# Altium schematic symbol library RF_Amplifier.SchLib: 76 symbols
Pins are listed as number, name and electrical type; pins without a type are passive.

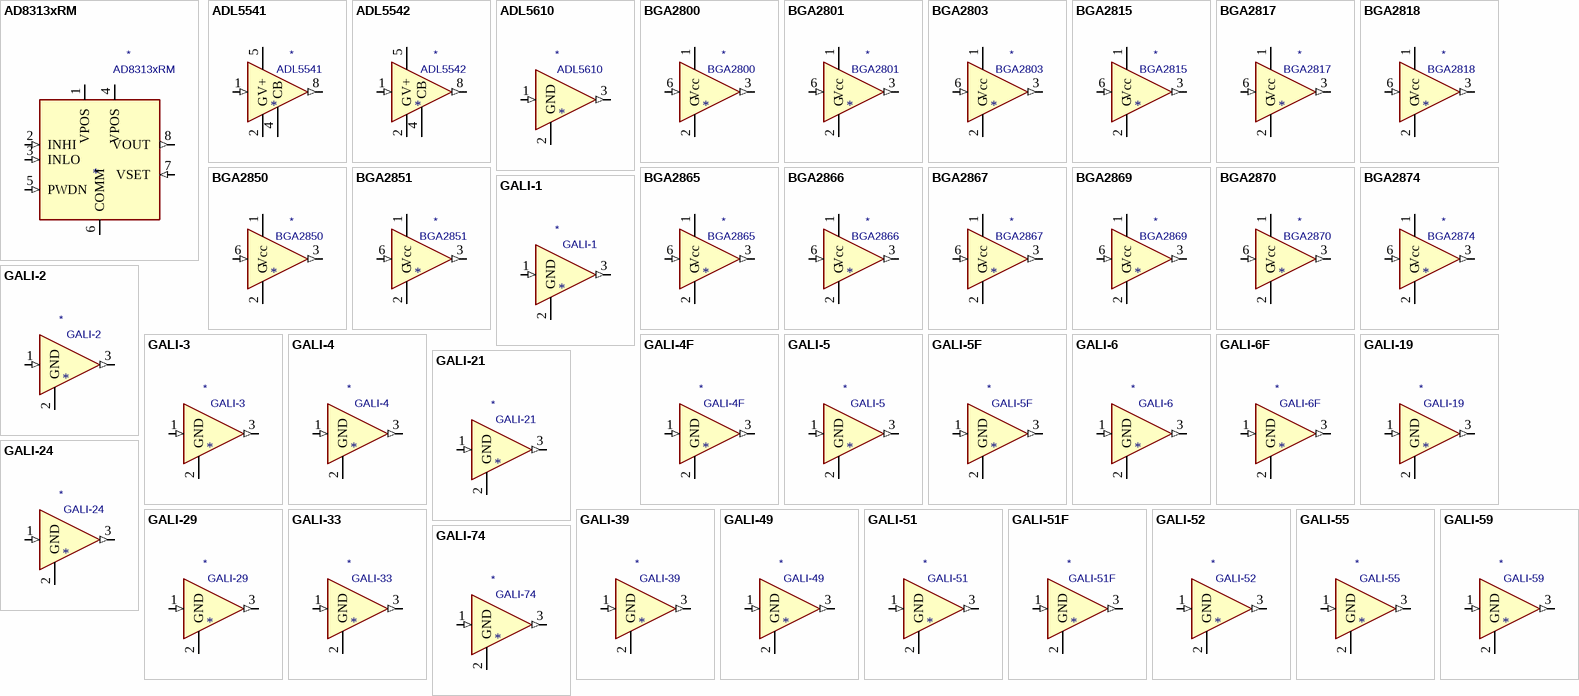
[diagram p0: symbols AD8313xRM to GALI-74]

## AD8313xRM
designator *  value AD8313xRM
ki_keywords: RF LOG POWER DETECTOR; ki_description: 100 MHz to 2.5 GHz, 80 dB Logarithmic Detector / Controller, MSOP-8; ki_fp_filters: MSOP*3x3mm*P0.65mm*; Footprint: Package_SO:MSOP-8_3x3mm_P0.65mm; Supplier: https://www.analog.com/media/en/technical-documentation/data-sheets/AD8313.pdf
footprint MSOP-8_3x3mm_P0.65mm
pins: 1 VPOS (power), 2 INHI (in), 3 INLO (in), 4 VPOS (power), 5 PWDN (in), 6 COMM (power), 7 VSET (in), 8 VOUT (out)

## ADL5541
designator *  value ADL5541
ki_keywords: RF GAIN BLOCK; ki_description: 20-6000MHz RF/IF +15dB gain block, LFCSP-8; ki_fp_filters: Analog*LFCSP*1EP*3x3mm*P0.5mm*EP1.53x1.85mm*; Footprint: Package_CSP:Analog_LFCSP-8-1EP_3x3mm_P0.5mm_EP1.53x1.85mm; Supplier: https://www.analog.com/media/en/technical-documentation/data-sheets/ADL5541.pdf
footprint Analog_LFCSP-8-1EP_3x3mm_P0.5mm_EP1.53x1.85mm
pins: 1 (in), 2 G (power), 4 CB, 5 V+ (power), 8 (out)

## ADL5542
designator *  value ADL5542
ki_keywords: RF GAIN BLOCK; ki_description: 20-6000MHz RF/IF +20dB gain block, LFCSP-8; ki_fp_filters: Analog*LFCSP*1EP*3x3mm*P0.5mm*EP1.53x1.85mm*; Footprint: Package_CSP:Analog_LFCSP-8-1EP_3x3mm_P0.5mm_EP1.53x1.85mm; Supplier: https://www.analog.com/media/en/technical-documentation/data-sheets/ADL5542.pdf
footprint Analog_LFCSP-8-1EP_3x3mm_P0.5mm_EP1.53x1.85mm
pins: 1 (in), 2 G (power), 4 CB, 5 V+ (power), 8 (out)

## ADL5610
designator *  value ADL5610
ki_keywords: RF GAIN BLOCK; ki_description: 30-6000MHz RF/IF +18.4dB gain block, SOT-89; ki_fp_filters: SOT?89*; Footprint: Package_TO_SOT_SMD:SOT-89-3; Supplier: https://www.analog.com/media/en/technical-documentation/data-sheets/ADL5610.pdf
footprint SOT-89-3
pins: 1 (in), 2 GND (power), 3 (out)

## BGA2800
designator *  value BGA2800
ki_keywords: RF GAIN BLOCK; ki_description: MMIC wideband amplifier, DC-2.2GHz, +20.2dB @ 2150MHz, 3.3V, SOT-363; ki_fp_filters: SOT*363*; Footprint: Package_TO_SOT_SMD:SOT-363_SC-70-6; Supplier: https://www.nxp.com/docs/en/data-sheet/BGA2800.pdf
footprint SOT-363_SC-70-6
pins: 1 Vcc (power), 2 G (power), 3 (out), 4 G hidden, 5 G hidden, 6 (in)

## BGA2801
designator *  value BGA2801
ki_keywords: RF GAIN BLOCK; ki_description: MMIC wideband amplifier, DC-2.2GHz, +23dB @ 2120MHz, 3.3V, SOT-363; ki_fp_filters: SOT*363*; Footprint: Package_TO_SOT_SMD:SOT-363_SC-70-6; Supplier: https://www.nxp.com/docs/en/data-sheet/BGA2801.pdf
footprint SOT-363_SC-70-6
pins: 1 Vcc (power), 2 G (power), 3 (out), 4 G hidden, 5 G hidden, 6 (in)

## BGA2803
designator *  value BGA2803
ki_keywords: RF GAIN BLOCK; ki_description: MMIC wideband amplifier, DC-2.2GHz, +23.6dB @ 950MHz, 3V, SOT-363; ki_fp_filters: SOT*363*; Footprint: Package_TO_SOT_SMD:SOT-363_SC-70-6; Supplier: https://www.nxp.com/docs/en/data-sheet/BGA2803.pdf
footprint SOT-363_SC-70-6
pins: 1 Vcc (power), 2 G (power), 3 (out), 4 G hidden, 5 G hidden, 6 (in)

## BGA2815
designator *  value BGA2815
ki_keywords: RF GAIN BLOCK; ki_description: MMIC wideband amplifier, DC-2.2GHz, +24.7dB @ 2150MHz, 3.3V, SOT-363; ki_fp_filters: SOT*363*; Footprint: Package_TO_SOT_SMD:SOT-363_SC-70-6; Supplier: https://www.nxp.com/docs/en/data-sheet/BGA2815.pdf
footprint SOT-363_SC-70-6
pins: 1 Vcc (power), 2 G (power), 3 (out), 4 G hidden, 5 G hidden, 6 (in)

## BGA2817
designator *  value BGA2817
ki_keywords: RF GAIN BLOCK; ki_description: MMIC wideband amplifier, DC-2.2GHz, +24.4dB @ 2150MHz, 3.3V, SOT-363; ki_fp_filters: SOT*363*; Footprint: Package_TO_SOT_SMD:SOT-363_SC-70-6; Supplier: https://www.nxp.com/docs/en/data-sheet/BGA2817.pdf
footprint SOT-363_SC-70-6
pins: 1 Vcc (power), 2 G (power), 3 (out), 4 G hidden, 5 G hidden, 6 (in)

## BGA2818
designator *  value BGA2818
ki_keywords: RF GAIN BLOCK; ki_description: MMIC wideband amplifier, DC-2.2GHz, +30dB @ 2150MHz, 3.3V, SOT-363; ki_fp_filters: SOT*363*; Footprint: Package_TO_SOT_SMD:SOT-363_SC-70-6; Supplier: https://www.nxp.com/docs/en/data-sheet/BGA2818.pdf
footprint SOT-363_SC-70-6
pins: 1 Vcc (power), 2 G (power), 3 (out), 4 G hidden, 5 G hidden, 6 (in)

## BGA2850
designator *  value BGA2850
ki_keywords: RF GAIN BLOCK; ki_description: MIC wideband amplifier, DC-2.2GHz, +24dB @ 950MHz, 5V, SOT-363-6; ki_fp_filters: SOT*363*; Footprint: Package_TO_SOT_SMD:SOT-363_SC-70-6; Supplier: https://www.nxp.com/docs/en/data-sheet/BGA2850.pdf
footprint SOT-363_SC-70-6
pins: 1 Vcc (power), 2 G (power), 3 (out), 4 G hidden, 5 G hidden, 6 (in)

## BGA2851
designator *  value BGA2851
ki_keywords: RF GAIN BLOCK; ki_description: MMIC wideband amplifier, DC-2.2GHz, +24.8dB @ 950MHz, 5V, SOT-363-6; ki_fp_filters: SOT*363*; Footprint: Package_TO_SOT_SMD:SOT-363_SC-70-6; Supplier: https://www.nxp.com/docs/en/data-sheet/BGA2851.pdf
footprint SOT-363_SC-70-6
pins: 1 Vcc (power), 2 G (power), 3 (out), 4 G hidden, 5 G hidden, 6 (in)

## BGA2865
designator *  value BGA2865
ki_keywords: RF GAIN BLOCK; ki_description: MMIC wideband amplifier, DC-2.2GHz, +32.2dB @ 950MHz, 5V, SOT-363; ki_fp_filters: SOT*363*; Footprint: Package_TO_SOT_SMD:SOT-363_SC-70-6; Supplier: https://www.nxp.com/docs/en/data-sheet/BGA2865.pdf
footprint SOT-363_SC-70-6
pins: 1 Vcc (power), 2 G (power), 3 (out), 4 G hidden, 5 G hidden, 6 (in)

## BGA2866
designator *  value BGA2866
ki_keywords: RF GAIN BLOCK; ki_description: MMIC wideband amplifier, DC-2.2GHz, +24.3dB @ 2150MHz, 5V, SOT-363; ki_fp_filters: SOT*363*; Footprint: Package_TO_SOT_SMD:SOT-363_SC-70-6; Supplier: https://www.nxp.com/docs/en/data-sheet/BGA2866.pdf
footprint SOT-363_SC-70-6
pins: 1 Vcc (power), 2 G (power), 3 (out), 4 G hidden, 5 G hidden, 6 (in)

## BGA2867
designator *  value BGA2867
ki_keywords: RF GAIN BLOCK; ki_description: MMIC wideband amplifier, DC-2.2GHz, +26.4dB @ 2150MHz, 5V, SOT-363; ki_fp_filters: SOT*363*; Footprint: Package_TO_SOT_SMD:SOT-363_SC-70-6; Supplier: https://www.nxp.com/docs/en/data-sheet/BGA2867.pdf
footprint SOT-363_SC-70-6
pins: 1 Vcc (power), 2 G (power), 3 (out), 4 G hidden, 5 G hidden, 6 (in)

## BGA2869
designator *  value BGA2869
ki_keywords: RF GAIN BLOCK; ki_description: MMIC wideband amplifier, DC-2.2GHz, +31.7dB @ 950MHz, 5V, SOT-363; ki_fp_filters: SOT*363*; Footprint: Package_TO_SOT_SMD:SOT-363_SC-70-6; Supplier: https://www.nxp.com/docs/en/data-sheet/BGA2869.pdf
footprint SOT-363_SC-70-6
pins: 1 Vcc (power), 2 G (power), 3 (out), 4 G hidden, 5 G hidden, 6 (in)

## BGA2870
designator *  value BGA2870
ki_keywords: RF GAIN BLOCK; ki_description: MMIC wideband amplifier, DC-2.2GHz, +31.1dB @ 500MHz, 2.5V, SOT-363; ki_fp_filters: SOT*363*; Footprint: Package_TO_SOT_SMD:SOT-363_SC-70-6; Supplier: https://www.nxp.com/docs/en/data-sheet/BGA2870.pdf
footprint SOT-363_SC-70-6
pins: 1 Vcc (power), 2 G (power), 3 (out), 4 G hidden, 5 G hidden, 6 (in)

## BGA2874
designator *  value BGA2874
ki_keywords: RF GAIN BLOCK; ki_description: MMIC wideband amplifier, DC-2.2GHz, +31dB @ 750MHz, 2.5V, SOT-363; ki_fp_filters: SOT*363*; Footprint: Package_TO_SOT_SMD:SOT-363_SC-70-6; Supplier: https://www.nxp.com/docs/en/data-sheet/BGA2874.pdf
footprint SOT-363_SC-70-6
pins: 1 Vcc (power), 2 G (power), 3 (out), 4 G hidden, 5 G hidden, 6 (in)

## GALI-1
designator *  value GALI-1
ki_keywords: RF amplifier; ki_description: DC-8000MHz +11.8dB Gain Block, SOT-89; ki_fp_filters: SOT?89*; Footprint: Package_TO_SOT_SMD:SOT-89-3; Supplier: https://www.minicircuits.com/pdfs/GALI-1+.pdf
footprint SOT-89-3
pins: 1 (in), 2 GND (power), 3 (out)

## GALI-2
designator *  value GALI-2
ki_keywords: RF amplifier; ki_description: DC-8000MHz +14.8dB Gain Block, SOT-89; ki_fp_filters: SOT?89*; Footprint: Package_TO_SOT_SMD:SOT-89-3; Supplier: https://www.minicircuits.com/pdfs/GALI-2+.pdf
footprint SOT-89-3
pins: 1 (in), 2 GND (power), 3 (out)

## GALI-3
designator *  value GALI-3
ki_keywords: RF amplifier; ki_description: DC-3000MHz +19.1dB Gain Block, SOT-89; ki_fp_filters: SOT?89*; Footprint: Package_TO_SOT_SMD:SOT-89-3; Supplier: https://www.minicircuits.com/pdfs/GALI-3+.pdf
footprint SOT-89-3
pins: 1 (in), 2 GND (power), 3 (out)

## GALI-4
designator *  value GALI-4
ki_keywords: RF amplifier; ki_description: DC-4000MHz +13.5dB Gain Block, SOT-89; ki_fp_filters: SOT?89*; Footprint: Package_TO_SOT_SMD:SOT-89-3; Supplier: https://www.minicircuits.com/pdfs/GALI-4+.pdf
footprint SOT-89-3
pins: 1 (in), 2 GND (power), 3 (out)

## GALI-4F
designator *  value GALI-4F
ki_keywords: RF amplifier; ki_description: DC-4000MHz +13.4dB Gain Block, SOT-89; ki_fp_filters: SOT?89*; Footprint: Package_TO_SOT_SMD:SOT-89-3; Supplier: https://www.minicircuits.com/pdfs/GALI-4F+.pdf
footprint SOT-89-3
pins: 1 (in), 2 GND (power), 3 (out)

## GALI-5
designator *  value GALI-5
ki_keywords: RF amplifier; ki_description: DC-4000MHz +17.5dB Gain Block, SOT-89; ki_fp_filters: SOT?89*; Footprint: Package_TO_SOT_SMD:SOT-89-3; Supplier: https://www.minicircuits.com/pdfs/GALI-5+.pdf
footprint SOT-89-3
pins: 1 (in), 2 GND (power), 3 (out)

## GALI-5F
designator *  value GALI-5F
ki_keywords: RF amplifier; ki_description: DC-4000MHz +17.4dB Gain Block, SOT-89; ki_fp_filters: SOT?89*; Footprint: Package_TO_SOT_SMD:SOT-89-3; Supplier: https://www.minicircuits.com/pdfs/GALI-5F+.pdf
footprint SOT-89-3
pins: 1 (in), 2 GND (power), 3 (out)

## GALI-6
designator *  value GALI-6
ki_keywords: RF amplifier; ki_description: DC-4000MHz +11.3dB Gain Block, SOT-89; ki_fp_filters: SOT?89*; Footprint: Package_TO_SOT_SMD:SOT-89-3; Supplier: https://www.minicircuits.com/pdfs/GALI-6+.pdf
footprint SOT-89-3
pins: 1 (in), 2 GND (power), 3 (out)

## GALI-6F
designator *  value GALI-6F
ki_keywords: RF amplifier; ki_description: DC-4000MHz +11.6dB Gain Block, SOT-89; ki_fp_filters: SOT?89*; Footprint: Package_TO_SOT_SMD:SOT-89-3; Supplier: https://www.minicircuits.com/pdfs/GALI-6F+.pdf
footprint SOT-89-3
pins: 1 (in), 2 GND (power), 3 (out)

## GALI-19
designator *  value GALI-19
ki_keywords: RF amplifier; ki_description: DC-7000MHz +11.6dB Gain Block, SOT-89; ki_fp_filters: SOT?89*; Footprint: Package_TO_SOT_SMD:SOT-89-3; Supplier: https://www.minicircuits.com/pdfs/GALI-19+.pdf
footprint SOT-89-3
pins: 1 (in), 2 GND (power), 3 (out)

## GALI-21
designator *  value GALI-21
ki_keywords: RF amplifier; ki_description: DC-8000MHz +13.1dB Gain Block, SOT-89; ki_fp_filters: SOT?89*; Footprint: Package_TO_SOT_SMD:SOT-89-3; Supplier: https://www.minicircuits.com/pdfs/GALI-21+.pdf
footprint SOT-89-3
pins: 1 (in), 2 GND (power), 3 (out)

## GALI-24
designator *  value GALI-24
ki_keywords: RF amplifier; ki_description: DC-6000MHz +16.6dB Gain Block, SOT-89; ki_fp_filters: SOT?89*; Footprint: Package_TO_SOT_SMD:SOT-89-3; Supplier: https://www.minicircuits.com/pdfs/GALI-24+.pdf
footprint SOT-89-3
pins: 1 (in), 2 GND (power), 3 (out)

## GALI-29
designator *  value GALI-29
ki_keywords: RF amplifier; ki_description: DC-7000MHz +19.7dB Gain Block, SOT-89; ki_fp_filters: SOT?89*; Footprint: Package_TO_SOT_SMD:SOT-89-3; Supplier: https://www.minicircuits.com/pdfs/GALI-29+.pdf
footprint SOT-89-3
pins: 1 (in), 2 GND (power), 3 (out)

## GALI-33
designator *  value GALI-33
ki_keywords: RF amplifier; ki_description: DC-4000MHz +17.5dB Gain Block, SOT-89; ki_fp_filters: SOT?89*; Footprint: Package_TO_SOT_SMD:SOT-89-3; Supplier: https://www.minicircuits.com/pdfs/GALI-33+.pdf
footprint SOT-89-3
pins: 1 (in), 2 GND (power), 3 (out)

## GALI-39
designator *  value GALI-39
ki_keywords: RF amplifier; ki_description: DC-7000MHz +19.7dB Low Noise Amplifier, SOT-89; ki_fp_filters: SOT?89*; Footprint: Package_TO_SOT_SMD:SOT-89-3; Supplier: https://www.minicircuits.com/pdfs/GALI-39+.pdf
footprint SOT-89-3
pins: 1 (in), 2 GND (power), 3 (out)

## GALI-49
designator *  value GALI-49
ki_keywords: RF amplifier; ki_description: DC-5000MHz +13.6dB Gain Block, SOT-89; ki_fp_filters: SOT?89*; Footprint: Package_TO_SOT_SMD:SOT-89-3; Supplier: https://www.minicircuits.com/pdfs/GALI-49+.pdf
footprint SOT-89-3
pins: 1 (in), 2 GND (power), 3 (out)

## GALI-51
designator *  value GALI-51
ki_keywords: RF amplifier; ki_description: DC-4000MHz +16.1dB Gain Block, SOT-89; ki_fp_filters: SOT?89*; Footprint: Package_TO_SOT_SMD:SOT-89-3; Supplier: https://www.minicircuits.com/pdfs/GALI-51+.pdf
footprint SOT-89-3
pins: 1 (in), 2 GND (power), 3 (out)

## GALI-51F
designator *  value GALI-51F
ki_keywords: RF amplifier; ki_description: DC-4000MHz +15.9dB Gain Block, SOT-89; ki_fp_filters: SOT?89*; Footprint: Package_TO_SOT_SMD:SOT-89-3; Supplier: https://www.minicircuits.com/pdfs/GALI-51F+.pdf
footprint SOT-89-3
pins: 1 (in), 2 GND (power), 3 (out)

## GALI-52
designator *  value GALI-52
ki_keywords: RF amplifier; ki_description: DC-2000MHz +17.8dB Low Noise Amplifier, SOT-89; ki_fp_filters: SOT?89*; Footprint: Package_TO_SOT_SMD:SOT-89-3; Supplier: https://www.minicircuits.com/pdfs/GALI-52+.pdf
footprint SOT-89-3
pins: 1 (in), 2 GND (power), 3 (out)

## GALI-55
designator *  value GALI-55
ki_keywords: RF amplifier; ki_description: DC-4000MHz +18.5dB Gain Block, SOT-89; ki_fp_filters: SOT?89*; Footprint: Package_TO_SOT_SMD:SOT-89-3; Supplier: https://www.minicircuits.com/pdfs/GALI-55+.pdf
footprint SOT-89-3
pins: 1 (in), 2 GND (power), 3 (out)

## GALI-59
designator *  value GALI-59
ki_keywords: RF amplifier; ki_description: DC-5000MHz +18.3dB Gain Block, SOT-89; ki_fp_filters: SOT?89*; Footprint: Package_TO_SOT_SMD:SOT-89-3; Supplier: https://www.minicircuits.com/pdfs/GALI-59+.pdf
footprint SOT-89-3
pins: 1 (in), 2 GND (power), 3 (out)

## GALI-74
designator *  value GALI-74
ki_keywords: RF amplifier; ki_description: DC-1000MHz +21.8dB Low Noise Amplifier, SOT-89; ki_fp_filters: SOT?89*; Footprint: Package_TO_SOT_SMD:SOT-89-3; Supplier: https://www.minicircuits.com/pdfs/GALI-74+.pdf
footprint SOT-89-3
pins: 1 (in), 2 GND (power), 3 (out)

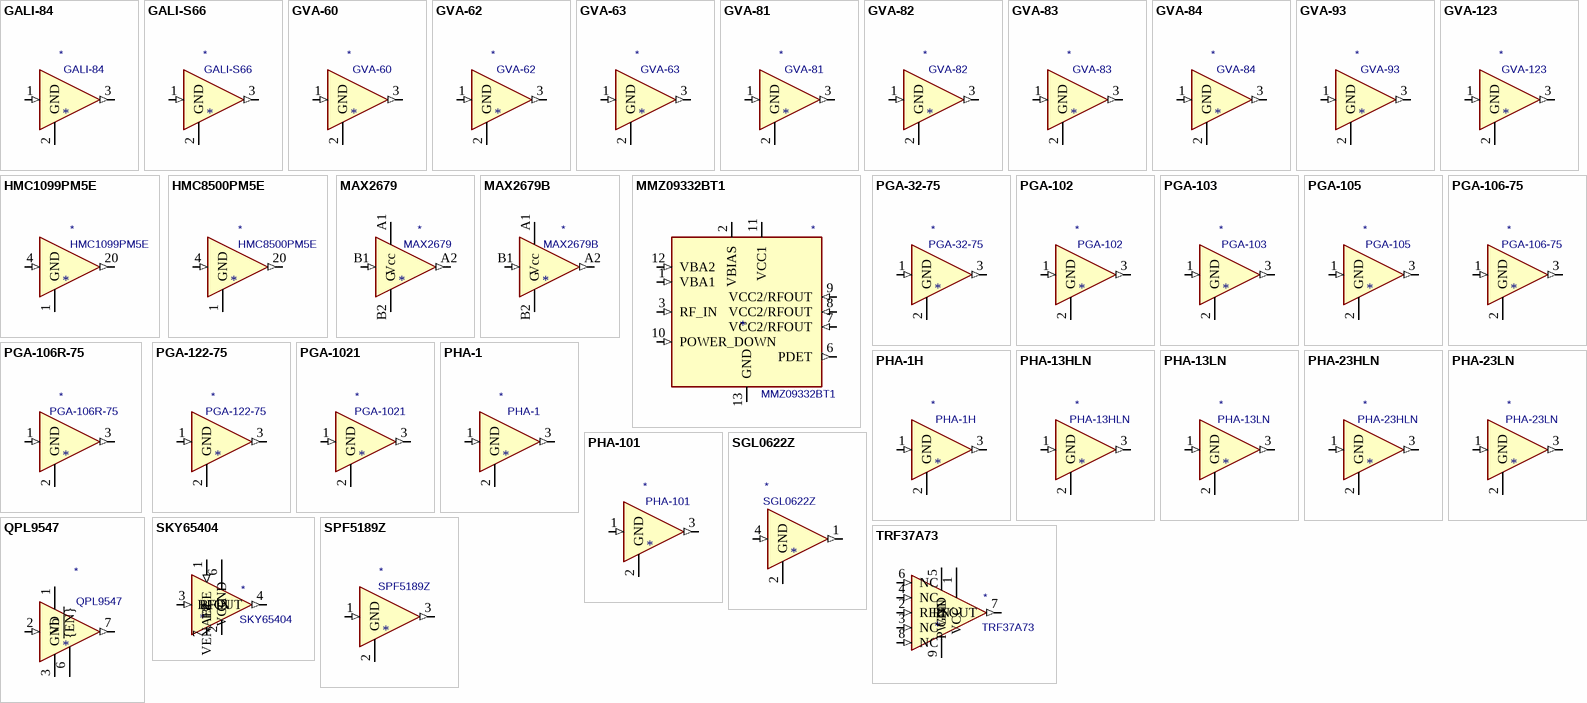
[diagram p1: symbols GALI-84 to TRF37A73]

## GALI-84
designator *  value GALI-84
ki_keywords: RF amplifier; ki_description: DC-6000MHz +16.7dB Gain Block, SOT-89; ki_fp_filters: SOT?89*; Footprint: Package_TO_SOT_SMD:SOT-89-3; Supplier: https://www.minicircuits.com/pdfs/GALI-84+.pdf
footprint SOT-89-3
pins: 1 (in), 2 GND (power), 3 (out)

## GALI-S66
designator *  value GALI-S66
ki_keywords: RF amplifier; ki_description: DC-3000MHz +18.2dB Low Noise Amplifier, SOT-89; ki_fp_filters: SOT?89*; Footprint: Package_TO_SOT_SMD:SOT-89-3; Supplier: https://www.minicircuits.com/pdfs/GALI-S66+.pdf
footprint SOT-89-3
pins: 1 (in), 2 GND (power), 3 (out)

## GVA-60
designator *  value GVA-60
ki_keywords: RF amplifier; ki_description: 10-5000MHz +19.8dB Gain Block, SOT-89; ki_fp_filters: SOT?89*; Footprint: Package_TO_SOT_SMD:SOT-89-3; Supplier: https://www.minicircuits.com/pdfs/GVA-60+.pdf
footprint SOT-89-3
pins: 1 (in), 2 GND (power), 3 (out)

## GVA-62
designator *  value GVA-62
ki_keywords: RF amplifier; ki_description: 10-6000MHz +15.4dB Gain Block, SOT-89; ki_fp_filters: SOT?89*; Footprint: Package_TO_SOT_SMD:SOT-89-3; Supplier: https://www.minicircuits.com/pdfs/GVA-62+.pdf
footprint SOT-89-3
pins: 1 (in), 2 GND (power), 3 (out)

## GVA-63
designator *  value GVA-63
ki_keywords: RF amplifier; ki_description: 10-6000MHz +20dB Gain Block, SOT-89; ki_fp_filters: SOT?89*; Footprint: Package_TO_SOT_SMD:SOT-89-3; Supplier: https://www.minicircuits.com/pdfs/GVA-63+.pdf
footprint SOT-89-3
pins: 1 (in), 2 GND (power), 3 (out)

## GVA-81
designator *  value GVA-81
ki_keywords: RF amplifier; ki_description: DC-6000MHz +10dB Gain Block, SOT-89; ki_fp_filters: SOT?89*; Footprint: Package_TO_SOT_SMD:SOT-89-3; Supplier: https://www.minicircuits.com/pdfs/GVA-81+.pdf
footprint SOT-89-3
pins: 1 (in), 2 GND (power), 3 (out)

## GVA-82
designator *  value GVA-82
ki_keywords: RF amplifier; ki_description: DC-7000MHz +13.8dB Gain Block, SOT-89; ki_fp_filters: SOT?89*; Footprint: Package_TO_SOT_SMD:SOT-89-3; Supplier: https://www.minicircuits.com/pdfs/GVA-82+.pdf
footprint SOT-89-3
pins: 1 (in), 2 GND (power), 3 (out)

## GVA-83
designator *  value GVA-83
ki_keywords: RF amplifier; ki_description: DC-7000MHz +17.1dB Gain Block, SOT-89; ki_fp_filters: SOT?89*; Footprint: Package_TO_SOT_SMD:SOT-89-3; Supplier: https://www.minicircuits.com/pdfs/GVA-83+.pdf
footprint SOT-89-3
pins: 1 (in), 2 GND (power), 3 (out)

## GVA-84
designator *  value GVA-84
ki_keywords: RF amplifier; ki_description: DC-7000MHz +16dB Gain Block, SOT-89; ki_fp_filters: SOT?89*; Footprint: Package_TO_SOT_SMD:SOT-89-3; Supplier: https://www.minicircuits.com/pdfs/GVA-84+.pdf
footprint SOT-89-3
pins: 1 (in), 2 GND (power), 3 (out)

## GVA-93
designator *  value GVA-93
ki_keywords: RF amplifier; ki_description: 10-9000MHz +16.9dB Gain Block, SOT-89; ki_fp_filters: SOT?89*; Footprint: Package_TO_SOT_SMD:SOT-89-3; Supplier: https://www.minicircuits.com/pdfs/GVA-93+.pdf
footprint SOT-89-3
pins: 1 (in), 2 GND (power), 3 (out)

## GVA-123
designator *  value GVA-123
ki_keywords: RF amplifier; ki_description: 10-12000MHz +16.9dB Gain Block, SOT-89; ki_fp_filters: SOT?89*; Footprint: Package_TO_SOT_SMD:SOT-89-3; Supplier: https://www.minicircuits.com/pdfs/GVA-123+.pdf
footprint SOT-89-3
pins: 1 (in), 2 GND (power), 3 (out)

## HMC1099PM5E
designator *  value HMC1099PM5E
ki_keywords: RF Amplifier; ki_description: 10 W (40 dBm), 0.01 GHz to 1.1 GHz, GaN Power Amplifier, LFCSP-32; ki_fp_filters: LFCSP*1EP*5x5mm*P0.5mm*; Footprint: Package_CSP:LFCSP-32-1EP_5x5mm_P0.5mm_EP3.1x3.1mm; Supplier: https://www.analog.com/media/en/technical-documentation/data-sheets/HMC1099PM5E.pdf
footprint LFCSP-32-1EP_5x5mm_P0.5mm_EP3.1x3.1mm
pins: 1 GND (power), 2 GND hidden, 3 GND hidden, 4 (in), 5 (in) hidden, 6 GND hidden, 7 GND hidden, 8 GND hidden, 9 GND hidden, 10 GND hidden, 11 GND hidden, 12 GND hidden, 13 GND hidden, 14 GND hidden, 15 GND hidden, 16 GND hidden, 17 GND hidden, 18 GND hidden, 19 GND hidden, 20 (out), 21 hidden, 22 GND hidden, 23 GND hidden, 24 GND hidden, 25 GND hidden, 26 GND hidden, 27 GND hidden, 28 GND hidden, 29 GND hidden, 30 GND hidden, 31 GND hidden, 32 GND hidden, 33 GND hidden

## HMC8500PM5E
designator *  value HMC8500PM5E
ki_keywords: RF Amplifier; ki_description: 10 W (40 dBm), 0.01 GHz to 2.8 GHz, GaN Power Amplifier, LFCSP-32; ki_fp_filters: LFCSP*1EP*5x5mm*P0.5mm*; Footprint: Package_CSP:LFCSP-32-1EP_5x5mm_P0.5mm_EP3.1x3.1mm; Supplier: https://www.analog.com/media/en/technical-documentation/data-sheets/HMC8500PM5E.pdf
footprint LFCSP-32-1EP_5x5mm_P0.5mm_EP3.1x3.1mm
pins: 1 GND (power), 2 GND hidden, 3 GND hidden, 4 (in), 5 (in) hidden, 6 GND hidden, 7 GND hidden, 8 GND hidden, 9 GND hidden, 10 GND hidden, 11 GND hidden, 12 GND hidden, 13 GND hidden, 14 GND hidden, 15 GND hidden, 16 GND hidden, 17 GND hidden, 18 GND hidden, 19 GND hidden, 20 (out), 21 hidden, 22 GND hidden, 23 GND hidden, 24 GND hidden, 25 GND hidden, 26 GND hidden, 27 GND hidden, 28 GND hidden, 29 GND hidden, 30 GND hidden, 31 GND hidden, 32 GND hidden, 33 GND hidden

## MAX2679
designator *  value MAX2679
ki_keywords: RF GAIN BLOCK; ki_description: GPS/GNSS Ultra-Low Current Low-Noise Amplifier, +19dB @ 1.57GHz, WLP-4; ki_fp_filters: WLP*0.83x0.83mm*P0.4mm*; Footprint: Package_BGA:WLP-4_0.83x0.83mm_P0.4mm; Supplier: https://datasheets.maximintegrated.com/en/ds/MAX2679-MAX2679B.pdf
footprint WLP-4_0.83x0.83mm_P0.4mm
pins: A1 Vcc (power), A2 (out), B1 (in), B2 G (power)

## MAX2679B
designator *  value MAX2679B
ki_keywords: RF GAIN BLOCK; ki_description: GPS/GNSS Ultra-Low Current Low-Noise Amplifier, +16.5dB @ 1.57GHz, WLP-4; ki_fp_filters: WLP*0.83x0.83mm*P0.4mm*; Footprint: Package_BGA:WLP-4_0.83x0.83mm_P0.4mm; Supplier: https://datasheets.maximintegrated.com/en/ds/MAX2679-MAX2679B.pdf
footprint WLP-4_0.83x0.83mm_P0.4mm
pins: A1 Vcc (power), A2 (out), B1 (in), B2 G (power)

## MMZ09332BT1
designator *  value MMZ09332BT1
ki_keywords: RF; ki_description: High Efficiency/Linearity Amplifier high linearity broadband amplifier, QFN-12; ki_fp_filters: QFN*3x3mm*P0.5mm*; Footprint: Package_DFN_QFN:QFN-12-1EP_3x3mm_P0.5mm_EP1.6x1.6mm_ThermalVias; Supplier: https://www.nxp.com/docs/en/data-sheet/MMZ09332B.pdf
footprint QFN-12-1EP_3x3mm_P0.5mm_EP1.6x1.6mm_ThermalVias
pins: 1 VBA1 (in), 2 VBIAS (power), 3 RF_IN (in), 4 NC (in) hidden, 5 NC (in) hidden, 6 PDET (out), 7 VCC2/RFOUT (in), 8 VCC2/RFOUT (in), 9 VCC2/RFOUT (in), 10 POWER_DOWN (in), 11 VCC1 (power), 12 VBA2 (in), 13 GND (power)

## PGA-32-75
designator *  value PGA-32-75
ki_keywords: RF amplifier; ki_description: 5-300MHz +15.6dB CATV Amplifier, SOT-89; ki_fp_filters: SOT?89*; Footprint: Package_TO_SOT_SMD:SOT-89-3; Supplier: https://www.minicircuits.com/pdfs/PGA-32-75+.pdf
footprint SOT-89-3
pins: 1 (in), 2 GND (power), 3 (out)

## PGA-102
designator *  value PGA-102
ki_keywords: RF amplifier; ki_description: 50-6000MHz +15.9dB Low Noise Amplifier, SOT-89; ki_fp_filters: SOT?89*; Footprint: Package_TO_SOT_SMD:SOT-89-3; Supplier: https://www.minicircuits.com/pdfs/PGA-102+.pdf
footprint SOT-89-3
pins: 1 (in), 2 GND (power), 3 (out)

## PGA-103
designator *  value PGA-103
ki_keywords: RF amplifier; ki_description: 50-4000MHz +11dB Low Noise Amplifier, SOT-89; ki_fp_filters: SOT?89*; Footprint: Package_TO_SOT_SMD:SOT-89-3; Supplier: https://www.minicircuits.com/pdfs/PGA-103+.pdf
footprint SOT-89-3
pins: 1 (in), 2 GND (power), 3 (out)

## PGA-105
designator *  value PGA-105
ki_keywords: RF amplifier; ki_description: 40-2600MHz +15.1dB Low Noise Amplifier, SOT-89; ki_fp_filters: SOT?89*; Footprint: Package_TO_SOT_SMD:SOT-89-3; Supplier: https://www.minicircuits.com/pdfs/PGA-105+.pdf
footprint SOT-89-3
pins: 1 (in), 2 GND (power), 3 (out)

## PGA-106-75
designator *  value PGA-106-75
ki_keywords: RF amplifier; ki_description: 50-1500MHz +16.9dB CATV Amplifier, SOT-89; ki_fp_filters: SOT?89*; Footprint: Package_TO_SOT_SMD:SOT-89-3; Supplier: https://www.minicircuits.com/pdfs/PGA-106-75+.pdf
footprint SOT-89-3
pins: 1 (in), 2 GND (power), 3 (out)

## PGA-106R-75
designator *  value PGA-106R-75
ki_keywords: RF amplifier; ki_description: 5-250MHz +17.9dB CATV Amplifier, SOT-89; ki_fp_filters: SOT?89*; Footprint: Package_TO_SOT_SMD:SOT-89-3; Supplier: https://www.minicircuits.com/pdfs/PGA-106R-75+.pdf
footprint SOT-89-3
pins: 1 (in), 2 GND (power), 3 (out)

## PGA-122-75
designator *  value PGA-122-75
ki_keywords: RF amplifier; ki_description: 5-1500MHz +15.5dB CATV Amplifier, SOT-89; ki_fp_filters: SOT?89*; Footprint: Package_TO_SOT_SMD:SOT-89-3; Supplier: https://www.minicircuits.com/pdfs/PGA-122-75+.pdf
footprint SOT-89-3
pins: 1 (in), 2 GND (power), 3 (out)

## PGA-1021
designator *  value PGA-1021
ki_keywords: RF amplifier; ki_description: 50-6000MHz +15.1dB Low Noise Amplifier, SOT-89; ki_fp_filters: SOT?89*; Footprint: Package_TO_SOT_SMD:SOT-89-3; Supplier: https://www.minicircuits.com/pdfs/PGA-1021+.pdf
footprint SOT-89-3
pins: 1 (in), 2 GND (power), 3 (out)

## PHA-1
designator *  value PHA-1
ki_keywords: RF amplifier; ki_description: 50-6000MHz +13.5dB Linear Amplifier, SOT-89; ki_fp_filters: SOT?89*; Footprint: Package_TO_SOT_SMD:SOT-89-3; Supplier: https://www.minicircuits.com/pdfs/PHA-1+.pdf
footprint SOT-89-3
pins: 1 (in), 2 GND (power), 3 (out)

## PHA-1H
designator *  value PHA-1H
ki_keywords: RF amplifier; ki_description: 50-6000MHz +13.8dB Linear Amplifier, SOT-89; ki_fp_filters: SOT?89*; Footprint: Package_TO_SOT_SMD:SOT-89-3; Supplier: https://www.minicircuits.com/pdfs/PHA-1H+.pdf
footprint SOT-89-3
pins: 1 (in), 2 GND (power), 3 (out)

## PHA-13HLN
designator *  value PHA-13HLN
ki_keywords: RF amplifier; ki_description: 1-1000MHz +22.7dB Low Noise Amplifier, SOT-89; ki_fp_filters: SOT?89*; Footprint: Package_TO_SOT_SMD:SOT-89-3; Supplier: https://www.minicircuits.com/pdfs/PHA-13HLN+.pdf
footprint SOT-89-3
pins: 1 (in), 2 GND (power), 3 (out)

## PHA-13LN
designator *  value PHA-13LN
ki_keywords: RF amplifier; ki_description: 1-1000MHz +22.4dB Low Noise Amplifier, SOT-89; ki_fp_filters: SOT?89*; Footprint: Package_TO_SOT_SMD:SOT-89-3; Supplier: https://www.minicircuits.com/pdfs/PHA-13LN+.pdf
footprint SOT-89-3
pins: 1 (in), 2 GND (power), 3 (out)

## PHA-23HLN
designator *  value PHA-23HLN
ki_keywords: RF amplifier; ki_description: 30-2000MHz +21.3dB Low Noise Amplifier, SOT-89; ki_fp_filters: SOT?89*; Footprint: Package_TO_SOT_SMD:SOT-89-3; Supplier: https://www.minicircuits.com/pdfs/PHA-23HLN+.pdf
footprint SOT-89-3
pins: 1 (in), 2 GND (power), 3 (out)

## PHA-23LN
designator *  value PHA-23LN
ki_keywords: RF amplifier; ki_description: 30-2000MHz +21dB Low Noise Amplifier, SOT-89; ki_fp_filters: SOT?89*; Footprint: Package_TO_SOT_SMD:SOT-89-3; Supplier: https://www.minicircuits.com/pdfs/PHA-23LN+.pdf
footprint SOT-89-3
pins: 1 (in), 2 GND (power), 3 (out)

## PHA-101
designator *  value PHA-101
ki_keywords: RF amplifier; ki_description: 50-1500MHz +15.2dB Linear Amplifier, SOT-89; ki_fp_filters: SOT?89*; Footprint: Package_TO_SOT_SMD:SOT-89-3; Supplier: https://www.minicircuits.com/pdfs/PHA-101+.pdf
footprint SOT-89-3
pins: 1 (in), 2 GND (power), 3 (out)

## QPL9547
designator *  value QPL9547
ki_keywords: RF GAIN BLOCK; ki_description: 100-6000MHz RF/IF +19.5dB gain block, DFN-8; ki_fp_filters: DFN*1EP*2x2mm*P0.5mm*; Footprint: Package_DFN_QFN:DFN-8-1EP_2x2mm_P0.5mm_EP0.8x1.6mm; Supplier: https://www.qorvo.com/products/d/da007268
footprint DFN-8-1EP_2x2mm_P0.5mm_EP0.8x1.6mm
pins: 1 Vb (power), 2 (in), 3 GND (power), 4 GND hidden, 5 GND hidden, 6 ~{{EN}}, 7 (out), 8 GND hidden, 9 GND hidden

## SGL0622Z
designator *  value SGL0622Z
ki_keywords: rf gain block; ki_description: 5 MHz to 4000 MHz, Low-Noise SiGe HBT MMIC Amplifier, DFN-8; ki_fp_filters: DFN*1EP*2x2mm*P0.5mm*; Footprint: Package_DFN_QFN:DFN-8-1EP_2x2mm_P0.5mm_EP0.6x1.2mm; Supplier: https://www.qorvo.com/products/d/da001879
footprint DFN-8-1EP_2x2mm_P0.5mm_EP0.6x1.2mm
pins: 1 (out), 2 GND (power), 3 GND hidden, 4 (in), 5 GND hidden, 6 GND hidden, 7 GND hidden, 8 GND hidden, 9 GND hidden

## SKY65404
designator *  value SKY65404
ki_keywords: LNA low noise amplifier RF; ki_description: 4.9-5.9GHz, 13dB Low-Noise Amplifier, QFN-6; ki_fp_filters: Skyworks*SKY65404*; Footprint: RF:Skyworks_SKY65404-31; Supplier: http://www.skyworksinc.com/uploads/documents/SKY65404_31_201512K.pdf
footprint Skyworks_SKY65404-31
pins: 1 VENABLE (in), 2 GND (power), 3 RFIN (in), 4 RFOUT (out), 5 GND hidden, 6 VCC (power), 7 EP

## SPF5189Z
designator *  value SPF5189Z
ki_keywords: RF GAIN BLOCK; ki_description: 50MHz to 4000MHz, GaAs pHEMT low noise MMIC amplifier, SOT-89; ki_fp_filters: SOT?89*; Footprint: Package_TO_SOT_SMD:SOT-89-3; Supplier: www.qorvo.com/products/d/da001910
footprint SOT-89-3
pins: 1 (in), 2 GND (power), 3 (out)

## TRF37A73
designator *  value TRF37A73
ki_keywords: gain block RF; ki_description: 6GHz, 12dB RF Gain Block, WSON-8; ki_fp_filters: WSON*1EP*2x2mm*P0.5mm*; Footprint: Package_SON:WSON-8-1EP_2x2mm_P0.5mm_EP0.9x1.6mm; Supplier: http://www.ti.com/lit/ds/symlink/trf37a73.pdf
footprint WSON-8-1EP_2x2mm_P0.5mm_EP0.9x1.6mm
pins: 1 VCC (power), 2 RFIN (in), 3 NC (in), 4 NC (in), 5 PWDN, 6 NC (in), 7 RFOUT (out), 8 NC (in), 9 GND (power)